# Altium footprint library SK6812B_SIDE.PcbLib: 1 footprints
Each footprint in its own frame and in the unit in brackets; x right, y up, seen from the top. Pads: shape width x height; smd on the part's side, far side on the other; paste and mask are expansions set on the pad; w line width, h text height; cw(c..) or ccw(c..) is an arc to the next point about the centre after c.
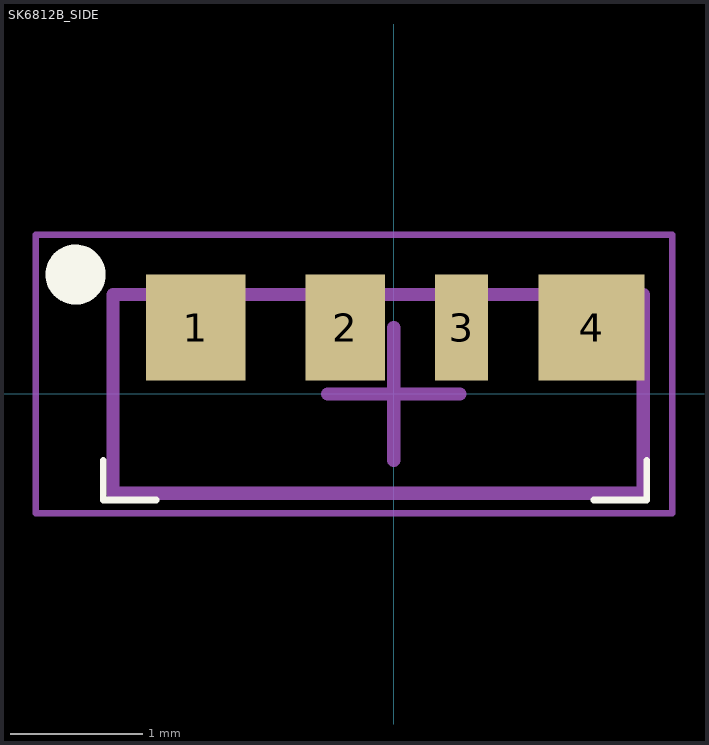
[diagram p0: the footprint, top view; thin cyan lines are the x and y axes]

## SK6812B_SIDE [mm]
pads (4):
  rect 0.75x0.8 smd: 1(-1.492,0.5)
  rect 0.6x0.8 smd: 2(-0.367,0.5)
  rect 0.4x0.8 smd: 3(0.513,0.5)
  rect 0.8x0.8 smd: 4(1.493,0.5)
Top Overlay:
  circle w0.254: c-2.4,0.9 r0.1
  lines w0.05: -2.193,-0.5 -2.193,-0.8 -1.792,-0.8 ; 1.508,-0.8 1.908,-0.8 1.908,-0.5
Mechanical 1:
  lines w0.1: -2.117,-0.75 -2.117,0.75 1.883,0.75 1.883,-0.75 -2.117,-0.75
  text ".Designator" at -1.797,-0.293 h0.65
Mechanical 2:
  lines w0.05: -2.7,-0.9 -2.7,1.2 2.1,1.2 2.1,-0.9 -2.7,-0.9
  lines w0.1: -0.5,0 0.5,0 ; 0,-0.5 0,0.5
3D body "4691.STEP": height 2.05, standoff 0, extent -2.117,-0.75 1.883,0.75